# Altium schematic symbol library Schlib_nizovie.SchLib: 15 symbols
Pins are listed as number, name and electrical type; pins without a type are passive.

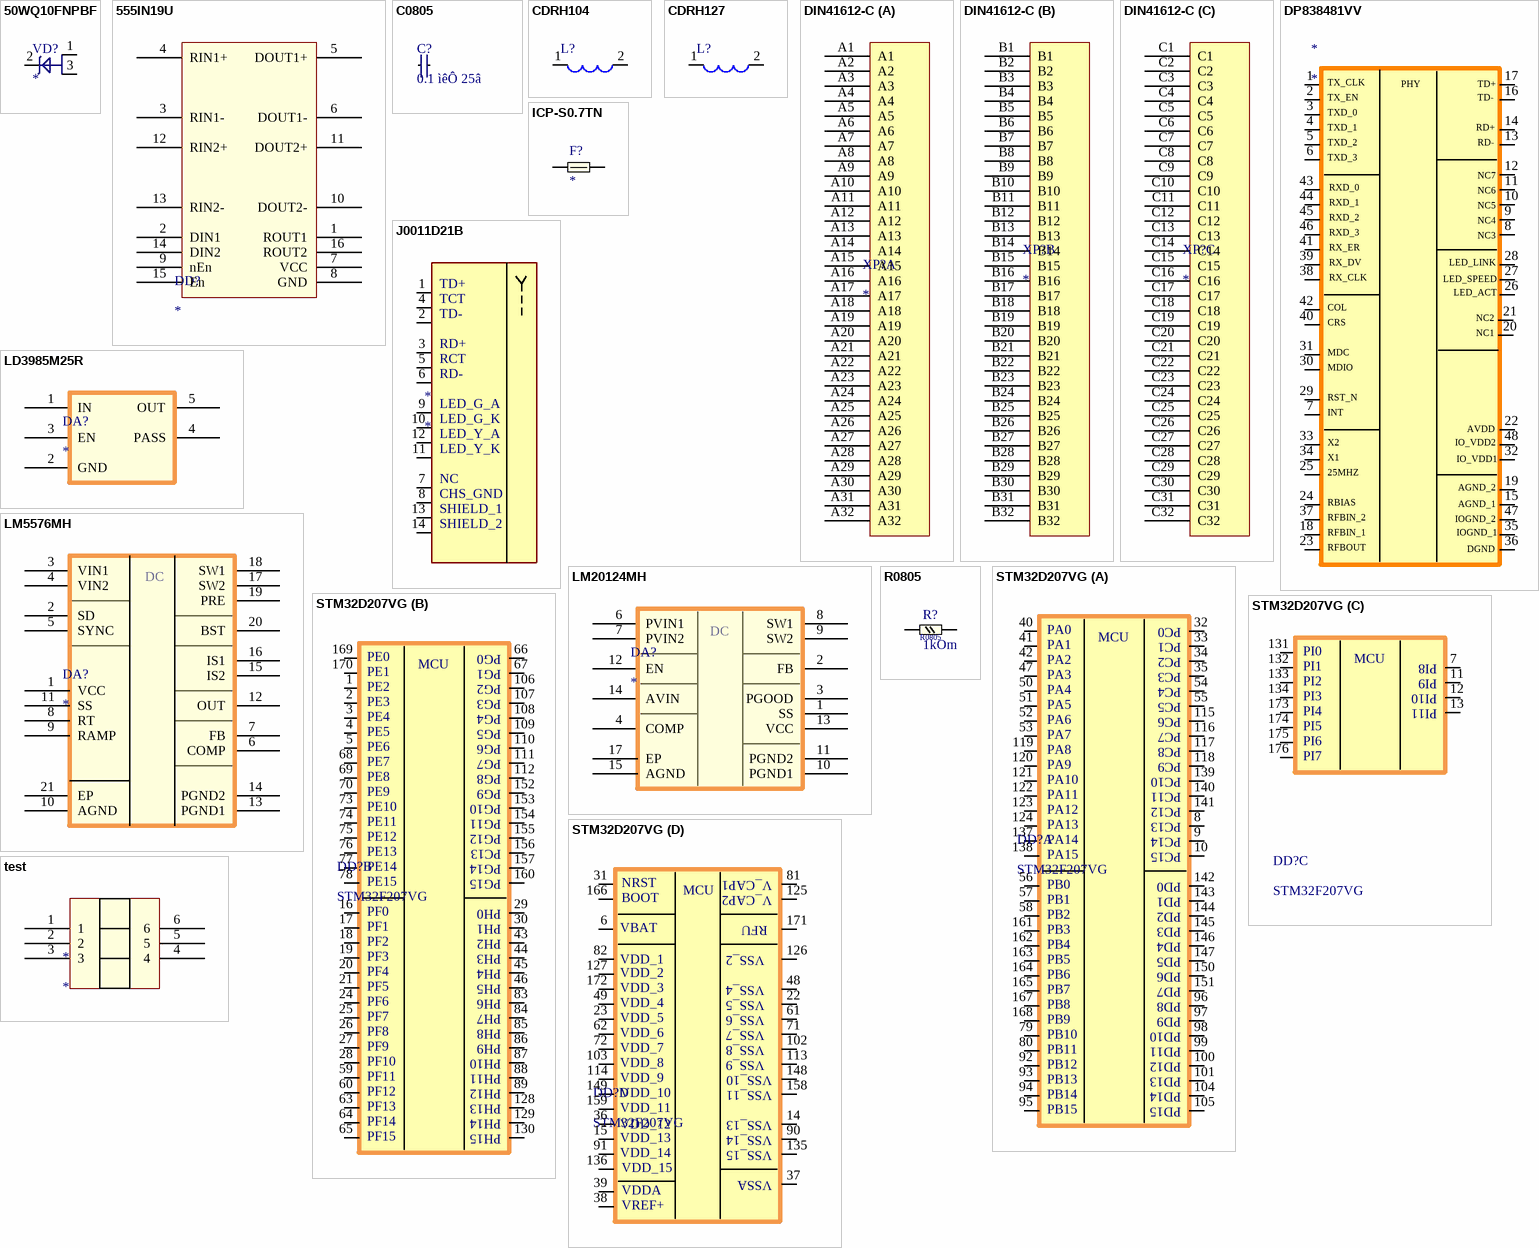
[diagram p0: symbols 50WQ10FNPBF to test]

## 50WQ10FNPBF
designator VD?
footprint 50WQ06 (D-PAK, 3-Pads, Body 6,2x6,7mm (max), IPC Medium Density)
footprint 50WQ06 (D-PAK, 3-Pads, Body 6,2x6,7mm (max), IPC Medium Density)
pins: 1, 3,  2 2

## 555IN19U
designator DD?
footprint 5559ÈÍ19Ó
pins: 1 ROUT1, 2 DIN1, 3 RIN1-, 4 RIN1+, 5 DOUT1+, 6 DOUT1-, 7 VCC, 8 GND, 9 nEn, 10 DOUT2-, 11 DOUT2+, 12 RIN2+, 13 RIN2-, 14 DIN2, 15 En, 16 ROUT2

## C0805
designator C?, comment 0.1 ìêÔ 25â
footprint FP_0805 (Chip Resistor, 2-Leads, Body 2,1x1,3mm, IPC Medium Density)
pins: 1, 2

## CDRH104
designator L?  (value not drawn)
footprint CDRH104R (Precision Wire Wound Inductor, 2-Leads, Body 10,5x10,3mm, IPC Medium Density)
pins: 1, 2

## CDRH127
designator L?  (value not drawn)
footprint CDRH127 (Precision Wire Wound Inductor, 2-Leads, Body 12,0x12,0mm, IPC Medium Density)
pins: 1, 2

## DIN41612-C
designator XP?
footprint DIN41612C
part A pins: A1, A2, A3, A4, A5, A6, A7, A8, A9, A10, A11, A12, A13, A14, A15, A16, A17, A18, A19, A20, A21, A22, A23, A24, A25, A26, A27, A28, A29, A30, A31, A32
part B pins: B1, B2, B3, B4, B5, B6, B7, B8, B9, B10, B11, B12, B13, B14, B15, B16, B17, B18, B19, B20, B21, B22, B23, B24, B25, B26, B27, B28, B29, B30, B31, B32
part C pins: C1, C2, C3, C4, C5, C6, C7, C8, C9, C10, C11, C12, C13, C14, C15, C16, C17, C18, C19, C20, C21, C22, C23, C24, C25, C26, C27, C28, C29, C30, C31, C32

## DP838481VV
designator *
footprint TSQFP50P905X905X140-48N (TSQFP, 48-Leads, Body 8,9x8,9mm (max), Pitch 0,50mm, IPC Medium Density)
pins: 1, 2, 3, 4, 5, 6, 7, 8, 9, 10, 11, 12, 13, 14, 15, 16, 17, 18, 19, 20, 21, 22, 23, 24, 25, 26, 27, 28, 29, 30, 31, 32, 33, 34, 35, 36, 37, 38, 39, 40, 41, 42, 43, 44, 45, 46, 47, 48
text: TX_CLK; PHY; TD+; TX_EN; TD-; TXD_0; TXD_1; RD+; TXD_2; RD-; TXD_3; NC7; RXD_0; NC6; RXD_1; NC5; RXD_2; NC4; RXD_3; NC3; RX_ER; RX_DV; LED_LINK; RX_CLK; LED_SPEED; LED_ACT; COL; CRS; NC2; NC1; MDC; MDIO; RST_N; INT; AVDD; X2; IO_VDD2; X1; IO_VDD1; 25MHZ; AGND_2; RBIAS; AGND_1; RFBIN_2; IOGND_2; RFBIN_1; IOGND_1; RFBOUT; DGND

## ICP-S0.7TN
designator F?
footprint ICP-S0.7 (Molded Capacitor, 2-Leads, Body 3,0x2,5mm, IPC Medium Density)
pins: 1, 2

## J0011D21B
designator *
footprint J0006D21BNL
pins: 1, 2, 3, 4, 5, 6, 7, 8, 9, 10, 11, 12, 13, 14
text: TD+; TCT; TD-; RD+; RCT; RD-; LED_G_A; LED_G_K; LED_Y_A; LED_Y_K; NC; CHS_GND; SHIELD_1; SHIELD_2

## LD3985M25R
designator DA?
footprint LD3985 (SOT23, 5-Leads, Body 3,0x3,0mm (max), Pitch 0,95mm, IPC Medium Density)
pins: 1 IN, 2 GND, 3 EN, 4 PASS, 5 OUT

## LM5576MH
designator DA?
footprint LM5576 (TSOP, 20-Leads, Body 6,5x4,5mm (max), Pitch 0,65mm, IPC Medium Density)
pins: 1 VCC, 2 SD, 3 VIN1, 4 VIN2, 5 SYNC, 6 COMP, 7 FB, 8 RT, 9 RAMP, 10 AGND, 11 SS, 12 OUT, 13 PGND1, 14 PGND2, 15 IS2, 16 IS1, 17 SW2, 18 SW1, 19 PRE, 20 BST, 21 EP
text: DC

## LM20124MH
designator DA?
footprint LM20124 (TSOP, 16-Leads, Body 5,1x4,5mm (max), Pitch 0,65mm, IPC Medium Density)
pins: 1 SS, 2 FB, 3 PGOOD, 4 COMP, 6 PVIN1, 7 PVIN2, 8 SW1, 9 SW2, 10 PGND1, 11 PGND2, 12 EN, 13 VCC, 14 AVIN, 15 AGND, 17 EP
text: DC

## R0805
designator R?, comment 1kOm
footprint FP_0805 (Chip Resistor, 2-Leads, Body 2,1x1,3mm, IPC Medium Density)
pins: 1, 2

## STM32D207VG
designator DD?, comment STM32F207VG
STM32
footprint TSQFP50P2600X2600X160-176N (TSQFP, 176-Leads, Body 26,1x26,1mm (max), Pitch 0,50mm, IPC Medium Density)
part A pins: 8, 9, 10, 32, 33, 34, 35, 40, 41, 42, 47, 50, 51, 52, 53, 54, 55, 56, 57, 58, 79, 80, 92, 93, 94, 95, 96, 97, 98, 99, 100, 101, 104, 105, 115, 116, 117, 118, 119, 120, 121, 122, 123, 124, 137, 138, 139, 140, 141, 142, 143, 144, 145, 146, 147, 150, 151, 161, 162, 163, 164, 165, 167, 168
part B pins: 1, 2, 3, 4, 5, 16, 17, 18, 19, 20, 21, 24, 25, 26, 27, 28, 29, 30, 43, 44, 45, 46, 59, 60, 63, 64, 65, 66, 67, 68, 69, 70, 73, 74, 75, 76, 77, 78, 83, 84, 85, 86, 87, 88, 89, 106, 107, 108, 109, 110, 111, 112, 128, 129, 130, 152, 153, 154, 155, 156, 157, 160, 169, 170
part C pins: 7, 11, 12, 13, 131, 132, 133, 134, 173, 174, 175, 176
part D pins: 6, 14, 15, 22, 23, 31, 36, 37, 38, 39, 48, 49, 61, 62, 71, 72, 81, 82, 90, 91, 102, 103, 113, 114, 125, 126, 127, 135, 136, 148, 149, 158, 159, 166, 171, 172
part A text: PC0; PA0; PC1; MCU; PA1; PC2; PA2; PC3; PA3; PC4; PA4; PC5; PA5; PC6; PA6; PC7; PA7; PC8; PA8; PC9; PA9; PC10; PA10; PC11; PA11; PC12; PA12; PC13; PA13; PC14; PA14; PC15; PA15; PD0; PB0; PD1; PB1; PD2; PB2; PD3; PB3; PD4; PB4; PD5; PB5; PD6; PB6; PD7; PB7; PD8; PB8; PD9; PB9; PD10; PB10; PD11; PB11; PD12; PB12; PD13; PB13; PD14; PB14; PD15; PB15
part B text: PG0; PE0; PG1; MCU; PE1; PG2; PE2; PG3; PE3; PG4; PE4; PG5; PE5; PG6; PE6; PG7; PE7; PG8; PE8; PG9; PE9; PG10; PE10; PG11; PE11; PG12; PE12; PC13; PE13; PG14; PE14; PG15; PE15; PH0; PF0; PH1; PF1; PH2; PF2; PH3; PF3; PH4; PF4; PH5; PF5; PH6; PF6; PH7; PF7; PH8; PF8; PH9; PF9; PH10; PF10; PH11; PF11; PH12; PF12; PH13; PF13; PH14; PF14; PH15; PF15
part C text: PI0; PI8; MCU; PI1; PI9; PI2; PI10; PI3; PI11; PI4; PI5; PI6; PI7
part D text: V_CAP1; NRST; V_CAP2; MCU; BOOT; RFU; VBAT; VSS_2; VDD_1; VDD_2; VSS_4; VDD_3; VSS_5; VDD_4; VSS_6; VDD_5; VSS_7; VDD_6; VSS_8; VDD_7; VSS_9; VDD_8; VSS_10; VDD_9; VSS_11; VDD_10; VDD_11; VSS_13; VDD_12; VSS_14; VDD_13; VSS_15; VDD_14; VDD_15; VSSA; VDDA; VREF+

## test
designator *
pins: 1, 2, 3, 4, 5, 6